# EAGLE library part JEELABS_JEEPORT (library jlpcb-128)
PIN HEADER
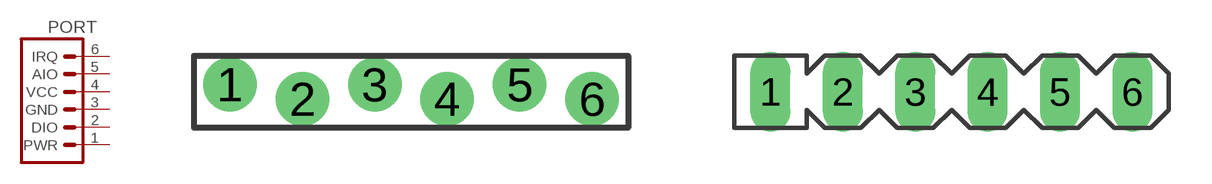
[diagram p0: symbol with the pads of JEELABS_1X06_FEMALE_LOCK.010; footprints JEELABS_1X06_FEMALE_LOCK.010, JEELABS_PORT6PIN]

Designator prefix PORT

## JEELABS_JEEPORT-FEMALE  [JEELABS_1X06_FEMALE_LOCK.010]
1  PWR  pwr
2  DIO
3  GND  pwr
4  VCC  pwr
5  AIO
6  IRQ

## JEELABS_JEEPORT-LONGPADS  [JEELABS_PORT6PIN]
Pads as for JEELABS_1X06_FEMALE_LOCK.010

## Footprint JEELABS_1X06_FEMALE_LOCK.010 (pad centres in mm)
drill 1.016 pad 1.88 round: 1 0,0.254; 2 2.54,-0.254; 3 5.08,0.254; 4 7.62,-0.254; 5 10.16,0.254; 6 12.7,-0.254

## Footprint JEELABS_PORT6PIN (pad centres in mm)
PIN HEADER
drill 0.9 long: 1 -6.35,0; 2 -3.81,0; 3 -1.27,0; 4 1.27,0; 5 3.81,0; 6 6.35,0